# Altium footprint library Diode.PcbLib: 34 footprints (part 2 of 3)
Each footprint in its own frame and in the unit in brackets; x right, y up, seen from the top. Pads: shape width x height; smd on the part's side, far side on the other; paste and mask are expansions set on the pad; w line width, h text height; cw(c..) or ccw(c..) is an arc to the next point about the centre after c.
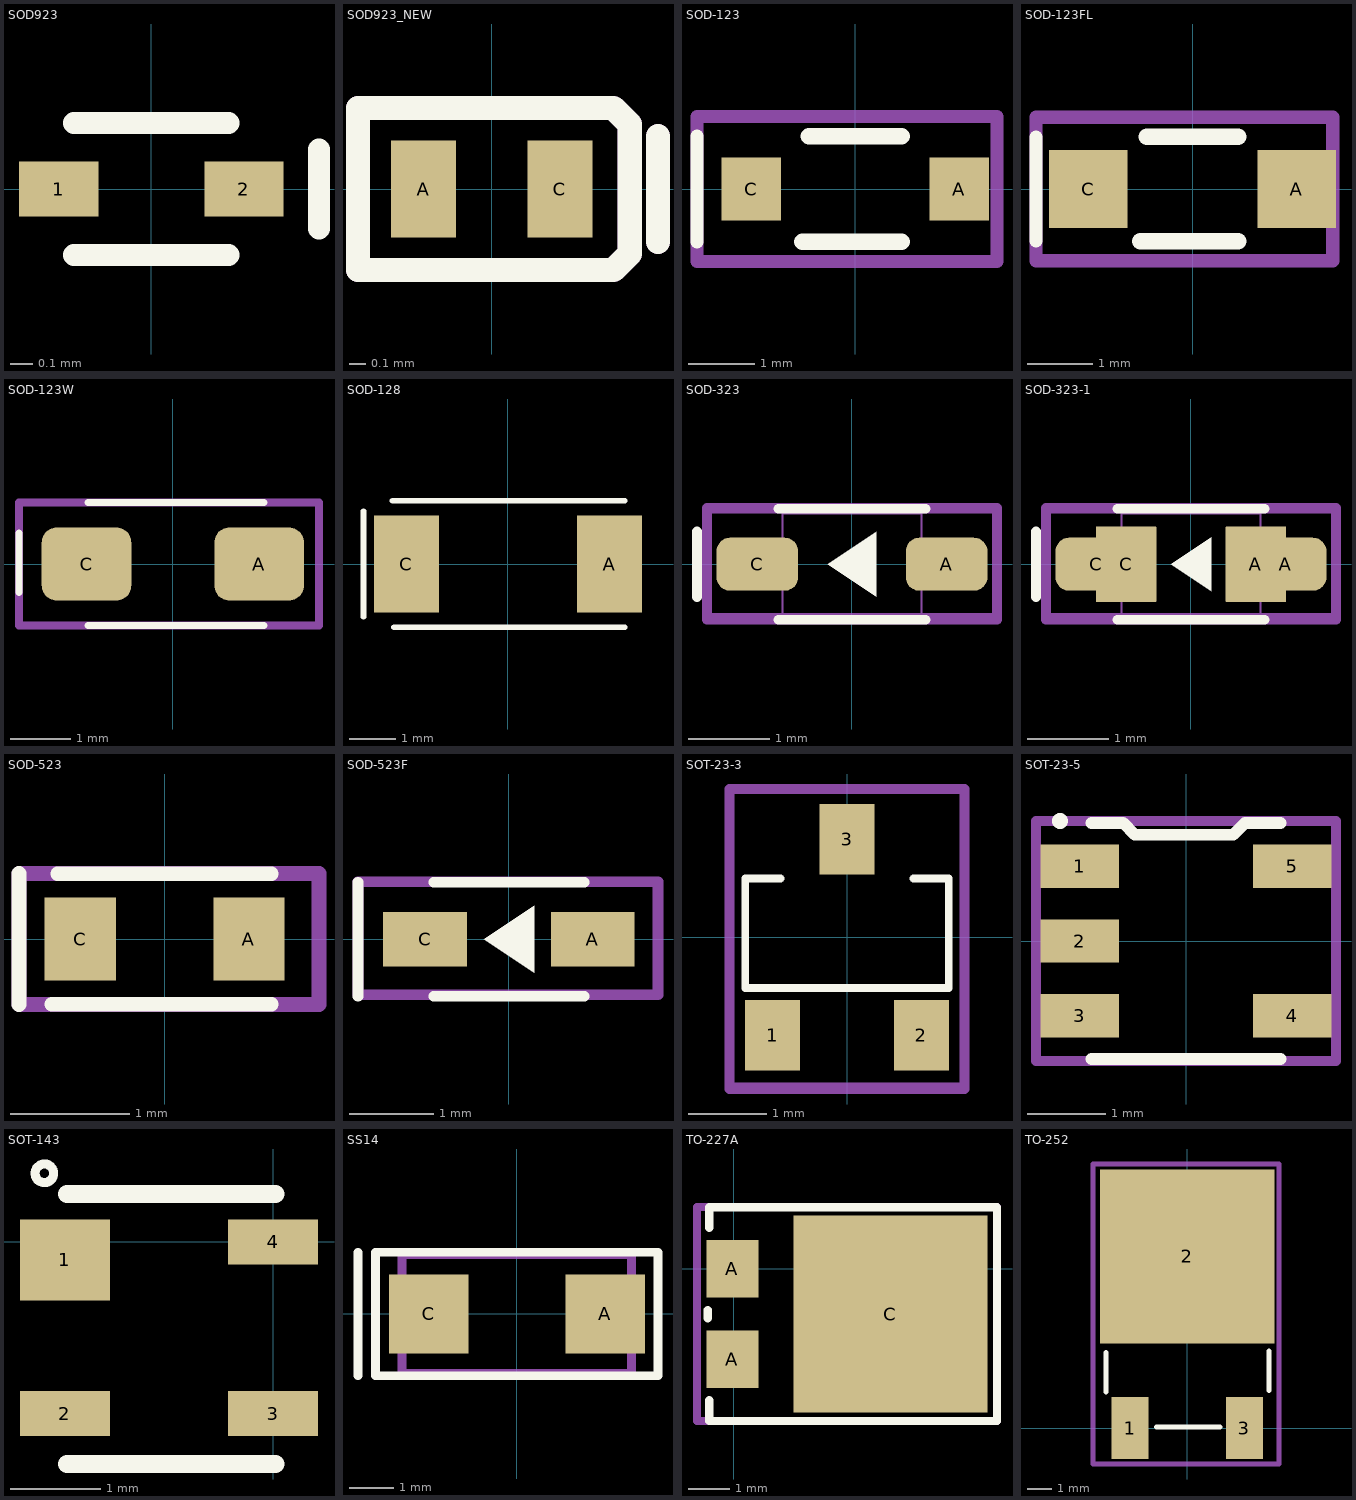
[diagram p1: the footprints below, top view; thin cyan lines are the x and y axes]

## SOD923 [mm]
height 2.65
pads (2):
  rect 0.36x0.25 smd: 1(-0.42,0) 2(0.42,0)
Top Overlay:
  lines w0.1: -0.35,-0.3 0.35,-0.3 ; -0.35,0.3 0.35,0.3 ; 0.76,-0.18 0.76,0.18
3D body "User Library-SOD-923.step": height 0.4, standoff 0, extent -0.5,-0.3 0.5,0.3

## SOD923_NEW [mm]
height 2.65
pads (2):
  rect 0.4x0.6 smd: A(-0.42,0) C(0.42,0)
Top Overlay:
  lines w0.15: 1.025,-0.325 1.025,0.325 ; -0.825,-0.5 0.75,-0.5 0.85,-0.4 0.85,0.4 0.75,0.5 -0.825,0.5 -0.825,-0.5
Mechanical 13:
  lines w0.15: 1.025,-0.325 1.025,0.325 ; -0.825,-0.5 0.75,-0.5 0.85,-0.4 0.85,0.4 0.75,0.5 -0.825,0.5 -0.825,-0.5
  text ".Designator" at -0.6,-0.174 h0.8
3D body "User Library-SOD-923.step": height 0.4, standoff 0, extent -0.5,-0.3 0.5,0.3

## SOD-123 [mm]
pads (2):
  rect 0.9x0.95 smd: A(1.575,0) C(-1.575,0)
Top Overlay:
  lines w0.2: -2.4,-0.8 -2.4,0.8
  lines w0.254: -0.8,-0.8 0.7,-0.8 ; -0.7,0.8 0.7,0.8
Mechanical 13:
  lines w0.2: -2.4,-1.1 -2.4,1.1 2.15,1.1 2.15,-1.1 -2.4,-1.1
  text ".Designator" at -2.151,-0.281 h1
Mechanical 15:
  lines w0.2: -2.4,-1.1 2.15,-1.1 2.15,1.1 -2.4,1.1 -2.4,-1.1
  text ".Comment" at -2.024,-0.281 h1
3D body "User Library-SOD-123.step": height 1.25, standoff 0, extent -1.849,-0.8 1.849,0.8

## SOD-123FL [mm]
pads (2):
  rect 1.2x1.2 smd: A(1.6,0) C(-1.6,0)
Top Overlay:
  lines w0.2: -2.4,-0.8 -2.4,0.8
  lines w0.254: -0.8,-0.8 0.7,-0.8 ; -0.7,0.8 0.7,0.8
Mechanical 13:
  lines w0.2: -2.4,-1.1 -2.4,1.1 2.15,1.1 2.15,-1.1 -2.4,-1.1
  text ".Designator" at -2.151,-0.281 h1
3D body "User Library-SOD-123FL.step": height 0.95, standoff 0.01, extent -1.793,-0.825 1.794,0.825

## SOD-123W [mm] "Diode, Small Outline Diode (SOD); 2.75 mm L X 1.80 mm W X 1.02 mm H body"
height 1.02
pads (2):
  rrect41% 1.48x1.21 smd: A(1.425,0) C(-1.425,0)
Top Overlay:
  lines w0.12: -2.54,-0.472 -2.54,0.508 ; -1.397,-1.016 1.503,-1.016 ; -1.397,1.016 1.503,1.016
Mechanical 13:
  lines w0.12: -2.54,-1.016 -2.54,1.016 2.413,1.016 2.413,-1.016 -2.54,-1.016
  text ".Designator" at -2.2,-0.4 h1
Mechanical 15:
  lines w0.127: -2.54,-1.016 -2.54,1.016 2.413,1.016 2.413,-1.016 -2.54,-1.016
  text ".Comment" at -2.4,-0.2 h1
3D body "SOD123W.STEP": height 1.02, standoff 0, extent -1.85,-0.9 1.85,0.9

## SOD-128 [mm] "Diode, Small Outline Diode (SOD); 2.75 mm L X 1.80 mm W X 1.02 mm H body"
height 1.02
pads (2):
  rect 1.4x2.1 smd: A(2.2,0) C(-2.2,0)
Top Overlay:
  lines w0.127: -3.134,-1.143 -3.134,1.143 ; -2.499,1.372 2.53,1.372 ; -2.474,-1.372 2.53,-1.372
Mechanical 13:
  text ".Designator" at -1.8,-0.1 h0.64
Mechanical 15:
  text ".Comment" at -1.3,-0.1 h0.64
3D body "User Library-SOD128.step": height 1.1, standoff -0.01, extent -2.484,-1.346 2.516,1.354

## SOD-323 [mm] "Diode, Small Outline Diode (SOD); 1.70 mm L X 1.25 mm W X 1.10 mm H body"
height 1.1
pads (2):
  rrect50% 1x0.65 smd: A(1.16,0) C(-1.16,0)
Top Overlay:
  region: 0.3,0 -0.3,0 0.3,0.4
  region: 0.3,0 -0.3,0 0.3,-0.4
  lines w0.12: -0.9,-0.68 0.9,-0.68 ; -0.9,0.68 0.9,0.68
  lines w0.127: -1.9,-0.4 -1.9,0.4
Mechanical 12:
  lines w0.025: -1.25,-0.162 -1.25,0.162 -1.17,0.162 -1.17,-0.162 -1.25,-0.162 ; -0.85,-0.625 0.85,-0.625 0.85,0.625 -0.85,0.625 -0.85,-0.625 ; 1.17,-0.162 1.25,-0.162 1.25,0.162 1.17,0.162 1.17,-0.162
Mechanical 13:
  lines w0.12: -1.778,-0.68 1.778,-0.68 1.778,0.68 -1.778,0.68 -1.778,-0.68
  text ".Designator" at -1.778,-0.2 h0.8
Mechanical 15:
  lines w0.127: -1.778,-0.66 -1.778,0.686 1.778,0.686 1.778,-0.66 -1.778,-0.66
  text ".Comment" at -1.778,-0.2 h0.8
3D body "SOD323.STEP": height 1.1, standoff 0, extent -1.25,-0.625 1.25,0.625

## SOD-323-1 [mm] "Diode, Small Outline Diode (SOD); 1.70 mm L X 1.25 mm W X 1.10 mm H body"
height 1.1
pads (4):
  rrect3% 0.74x0.93 smd: A(0.795,0) C(-0.795,0)
  rrect50% 1x0.65 smd: A(1.16,0) C(-1.16,0)
Top Overlay:
  region: 0.25,0 -0.25,0 0.25,-0.333
  region: 0.25,0 -0.25,0 0.25,0.333
  lines w0.12: -0.9,-0.68 0.9,-0.68 ; -0.9,0.68 0.9,0.68
  lines w0.127: -1.9,-0.4 -1.9,0.4
Mechanical 12:
  lines w0.025: -1.25,-0.162 -1.17,-0.162 -1.17,0.162 -1.25,0.162 -1.25,-0.162 ; -0.85,-0.625 -0.85,0.625 0.85,0.625 0.85,-0.625 -0.85,-0.625 ; 1.17,-0.162 1.17,0.162 1.25,0.162 1.25,-0.162 1.17,-0.162
Mechanical 13:
  lines w0.12: -1.778,-0.68 -1.778,0.68 1.778,0.68 1.778,-0.68 -1.778,-0.68
  text ".Designator" at -1.778,-0.2 h0.8
Mechanical 15:
  lines w0.127: -1.778,-0.66 1.778,-0.66 1.778,0.686 -1.778,0.686 -1.778,-0.66
  text ".Comment" at -1.778,-0.2 h0.8
3D body "SOD323.STEP": height 1.1, standoff 0, extent -1.25,-0.625 1.25,0.625

## SOD-523 [mm] "Diode, Small Outline Diode (SOD); 2.75 mm L X 1.80 mm W X 1.02 mm H body"
height 1.02
pads (2):
  rect 0.6x0.7 smd: A(0.71,0) C(-0.71,0)
Top Overlay:
  lines w0.12: -0.95,-0.55 0.9,-0.55 ; -0.9,0.55 0.9,0.55
  lines w0.127: -1.225,-0.55 -1.225,0.55
Mechanical 13:
  lines w0.127: -1.225,-0.55 1.3,-0.55 1.3,0.55 -1.225,0.55 -1.225,-0.55
  text ".Designator" at -1.025,-0.275 h1
3D body "User Library-SOD-523F.step": height 0.7, standoff 0, extent -0.8,-0.399 0.8,0.399

## SOD-523F [mm] "Diode, Small Outline Diode (SOD); 2.75 mm L X 1.80 mm W X 1.02 mm H body"
height 1.02
pads (2):
  rect 1x0.65 smd: A(1,0) C(-1,0)
Top Overlay:
  region: 0.3,0 -0.3,0 0.3,-0.4
  region: 0.3,0 -0.3,0 0.3,0.4
  lines w0.12: -0.9,-0.68 0.9,-0.68 ; -0.9,0.68 0.9,0.68
  lines w0.127: -1.8,-0.68 -1.8,0.68
Mechanical 13:
  lines w0.127: -1.8,-0.66 -1.8,0.686 1.778,0.686 1.778,-0.66 -1.8,-0.66
  text ".Designator" at -1.3,-0.1 h1
3D body "SOD323.STEP": height 1.1, standoff 0, extent -1.25,-0.625 1.25,0.625

## SOT-23-3 [mm]
pads (3):
  rect 0.7x0.9 smd: 1(-0.95,-1.25) 2(0.95,-1.25) 3(0,1.25)
Top Overlay:
  lines w0.1: -0.85,0.75 -1.3,0.75 -1.3,-0.647 1.3,-0.647 1.3,0.75 0.85,0.75
Mechanical 13:
  lines w0.127: -1.5,-1.917 1.5,-1.917 1.5,1.893 -1.5,1.893 -1.5,-1.917
  text ".Designator" at 0.254,-1.79 h1.5
Mechanical 15:
  lines w0.127: -1.5,-1.939 1.5,-1.939 1.5,1.893 -1.5,1.893 -1.5,-1.939
  text ".Comment" at 0.254,-1.79 h1.5
3D body "SW3DPS-SOT-23-DEFAULT.STEP": height 1.06, standoff -0.04, extent -1.5,-1.262 1.5,1.238

## SOT-23-5 [mm] "SOT-23-5"
height 1.1
pads (5):
  rect 1x0.55 smd: 1(-1.35,0.95) 2(-1.35,0) 3(-1.35,-0.95) 4(1.35,-0.95) 5(1.35,0.95)
Top Overlay:
  circle w0.1: c-1.6,1.524 r0.051
  lines w0.15: -1.2,-1.5 1.2,-1.5 ; -1.2,1.5 -0.8,1.5 -0.65,1.35 0.6,1.35 0.75,1.5 1.2,1.5
Mechanical 13:
  lines w0.127: -1.905,-1.524 -1.905,1.524 1.905,1.524 1.905,-1.524 -1.905,-1.524
  text ".Designator" at -1.778,-0.381 h1
Mechanical 15:
  lines w0.127: -1.905,-1.524 1.905,-1.524 1.905,1.524 -1.905,1.524 -1.905,-1.524
  text ".Comment" at -1.651,-0.381 h1
3D body "SOT23_5.stp": height 0.92, standoff 0.01, extent -1.603,-1.5 1.602,1.5

## SOT-143 [mm] "SOT-23-5"
height 1.1
pads (4):
  rect 1x0.9 smd: 1(-2.313,-0.2)
  rect 1x0.5 smd: 2(-2.313,-1.905) 3(0,-1.905) 4(0,0)
Top Overlay:
  circle w0.1: c-2.54,0.762 r0.103
  lines w0.2: -2.286,-2.465 0.027,-2.465 ; -2.286,0.535 0.027,0.535
3D body "SOT143 3D.step": height 1.1, standoff 0, extent -2.286,-2.465 0.027,0.535

## SS14 [mm]
pads (2):
  rect 1.8x1.8 smd: A(2,0) C(-2,0)
Top Overlay:
  lines w0.2: -3.6,-1.4 -3.6,1.4 ; -3.2,-1.4 3.2,-1.4 3.2,1.4 -3.2,1.4 -3.2,-1.4
Mechanical 13:
  lines w0.2: -2.6,-1.35 -2.6,1.35 2.6,1.35 2.6,-1.35 -2.6,-1.35
  text ".Designator" at -0.7,-0.1 h1
3D body "ss14.stp": height 2.44, standoff 0, extent -2.53,-1.462 2.53,1.263

## TO-227A [mm]
pads (3):
  rect 1.27x1.4 smd: A(-0.038,-2.2) A(-0.038,0)
  rect 4.72x4.8 smd: C(3.805,-1.1)
Top Overlay:
  lines w0.2: -0.637,-1.2 -0.637,-1 ; -0.6,-3.2 -0.6,-3.7 6.4,-3.7 6.4,1.5 -0.6,1.5 -0.6,1
Mechanical 13:
  lines w0.2: -0.9,-3.7 -0.9,1.503 6.4,1.503 6.4,-3.7 -0.9,-3.7
  text ".Designator" at 0.1,-1.311 h1
Mechanical 15:
  lines w0.2: -0.9,-3.7 -0.9,1.503 6.4,1.503 6.4,-3.7 -0.9,-3.7
  text ".Comment" at 0.1,-1.289 h1
3D body "User Library-TO-277A.STEP": height 1.2, standoff 0, extent -0.607,-3.475 6.043,1.275

## TO-252 [mm]
pads (3):
  rect 1.5x2.5 smd: 1(-2.3,0) 3(2.3,0)
  rect 7x7 smd: 2(0,6.9)
Top Overlay:
  lines w0.2: -3.267,1.439 -3.267,3.042 ; -1.245,0.039 1.321,0.039 ; 3.291,1.499 3.291,3.102
Mechanical 13:
  lines w0.2: -3.785,-1.448 -3.785,10.617 3.683,10.617 3.683,-1.448 -3.785,-1.448
  text ".Designator" at 0.319,0.965 h1
Mechanical 15:
  lines w0.2: -3.785,-1.448 -3.785,10.617 3.683,10.617 3.683,-1.448 -3.785,-1.448
  text ".Comment" at 0.268,0.965 h1
3D body "CircuitWorks-TO-252.step": height 2.3, standoff 0, extent -3.29,0.039 3.29,9.739